# EAGLE library part LM2623 (library BaseApp)
Digikey Number :- __LM2623MM/NOPBCT-ND__
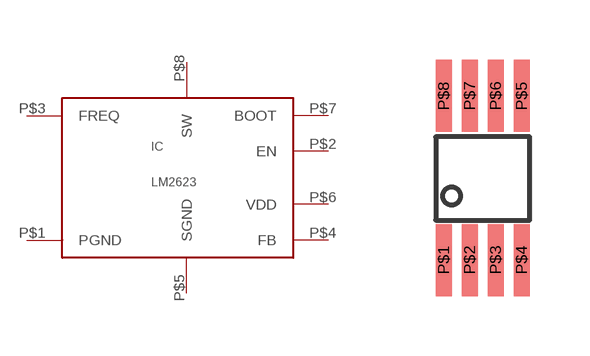
[diagram p35: symbol with the pads of MSOP-8L-EDP; footprint MSOP-8L-EDP]

Designator prefix IC

## LM2623  [MSOP-8L-EDP]
P$1  PGND
P$2  EN
P$3  FREQ
P$4  FB
P$5  SGND
P$6  VDD
P$7  BOOT
P$8  SW

## Footprint MSOP-8L-EDP (pad centres in mm)
smd 0.4 x 1.8: P$1 -1,-1.9; P$2 -0.35,-1.9; P$3 0.3,-1.9; P$4 0.95,-1.9; P$5 0.95,2.2; P$6 0.3,2.2; P$7 -0.35,2.2; P$8 -1,2.2